# EAGLE library part MMA7340L (library Accelerometers)
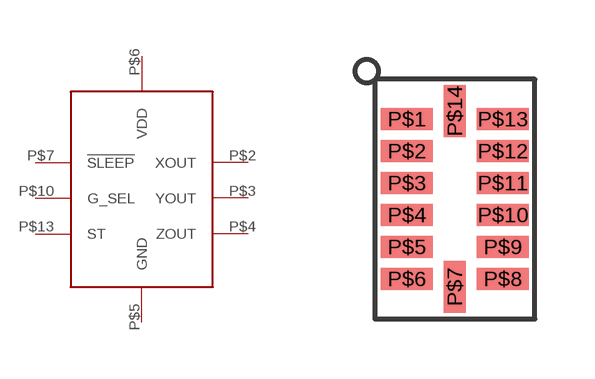
[diagram p2: symbol with the pads of LGA14; footprint LGA14]

Designator prefix -

## MMA7340L  [LGA14]
P$2  XOUT
P$3  YOUT
P$4  ZOUT
P$5  GND
P$6  VDD
P$7  !SLEEP
P$10  G_SEL
P$13  ST

## Footprint LGA14 (pad centres in mm)
smd 1.3 x 0.55: P$1 -1.2,1.994; P$2 -1.2,1.194; P$3 -1.2,0.394; P$4 -1.2,-0.406; P$5 -1.2,-1.206; P$6 -1.2,-2.006; P$8 1.2,-2.006; P$9 1.2,-1.206; P$10 1.2,-0.406; P$11 1.2,0.394; P$12 1.2,1.194; P$13 1.2,1.994
smd 0.55 x 1.3: P$7 0,-2.207; P$14 0,2.193